# Altium schematic symbol library Nexperia.SchLib: 2 symbols
Pins are listed as number, name and electrical type; pins without a type are passive.

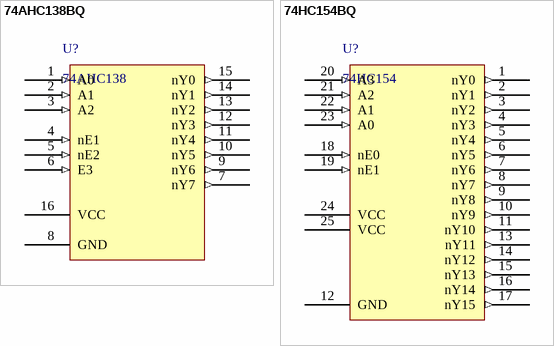
[diagram p0: symbols 74AHC138BQ to 74HC154BQ]

## 74AHC138BQ
designator U?, comment 74AHC138
pins: 1 A0 (in), 2 A1 (in), 3 A2 (in), 4 nE1 (in), 5 nE2 (in), 6 E3 (in), 7 nY7 (out), 8 GND, 9 nY6 (out), 10 nY5 (out), 11 nY4 (out), 12 nY3 (out), 13 nY2 (out), 14 nY1 (out), 15 nY0 (out), 16 VCC

## 74HC154BQ
designator U?, comment 74HC154
pins: 1 nY0 (out), 2 nY1 (out), 3 nY2 (out), 4 nY3 (out), 5 nY4 (out), 6 nY5 (out), 7 nY6 (out), 8 nY7 (out), 9 nY8 (out), 10 nY9 (out), 11 nY10 (out), 12 GND, 13 nY11 (out), 14 nY12 (out), 15 nY13 (out), 16 nY14 (out), 17 nY15 (out), 18 nE0 (in), 19 nE1 (in), 20 A3 (in), 21 A2 (in), 22 A1 (in), 23 A0 (in), 24 VCC, 25 VCC